# Altium schematic symbol library GN-1846-A-V2.SCHLIB: 33 symbols
Pins are listed as number, name and electrical type; pins without a type are passive.

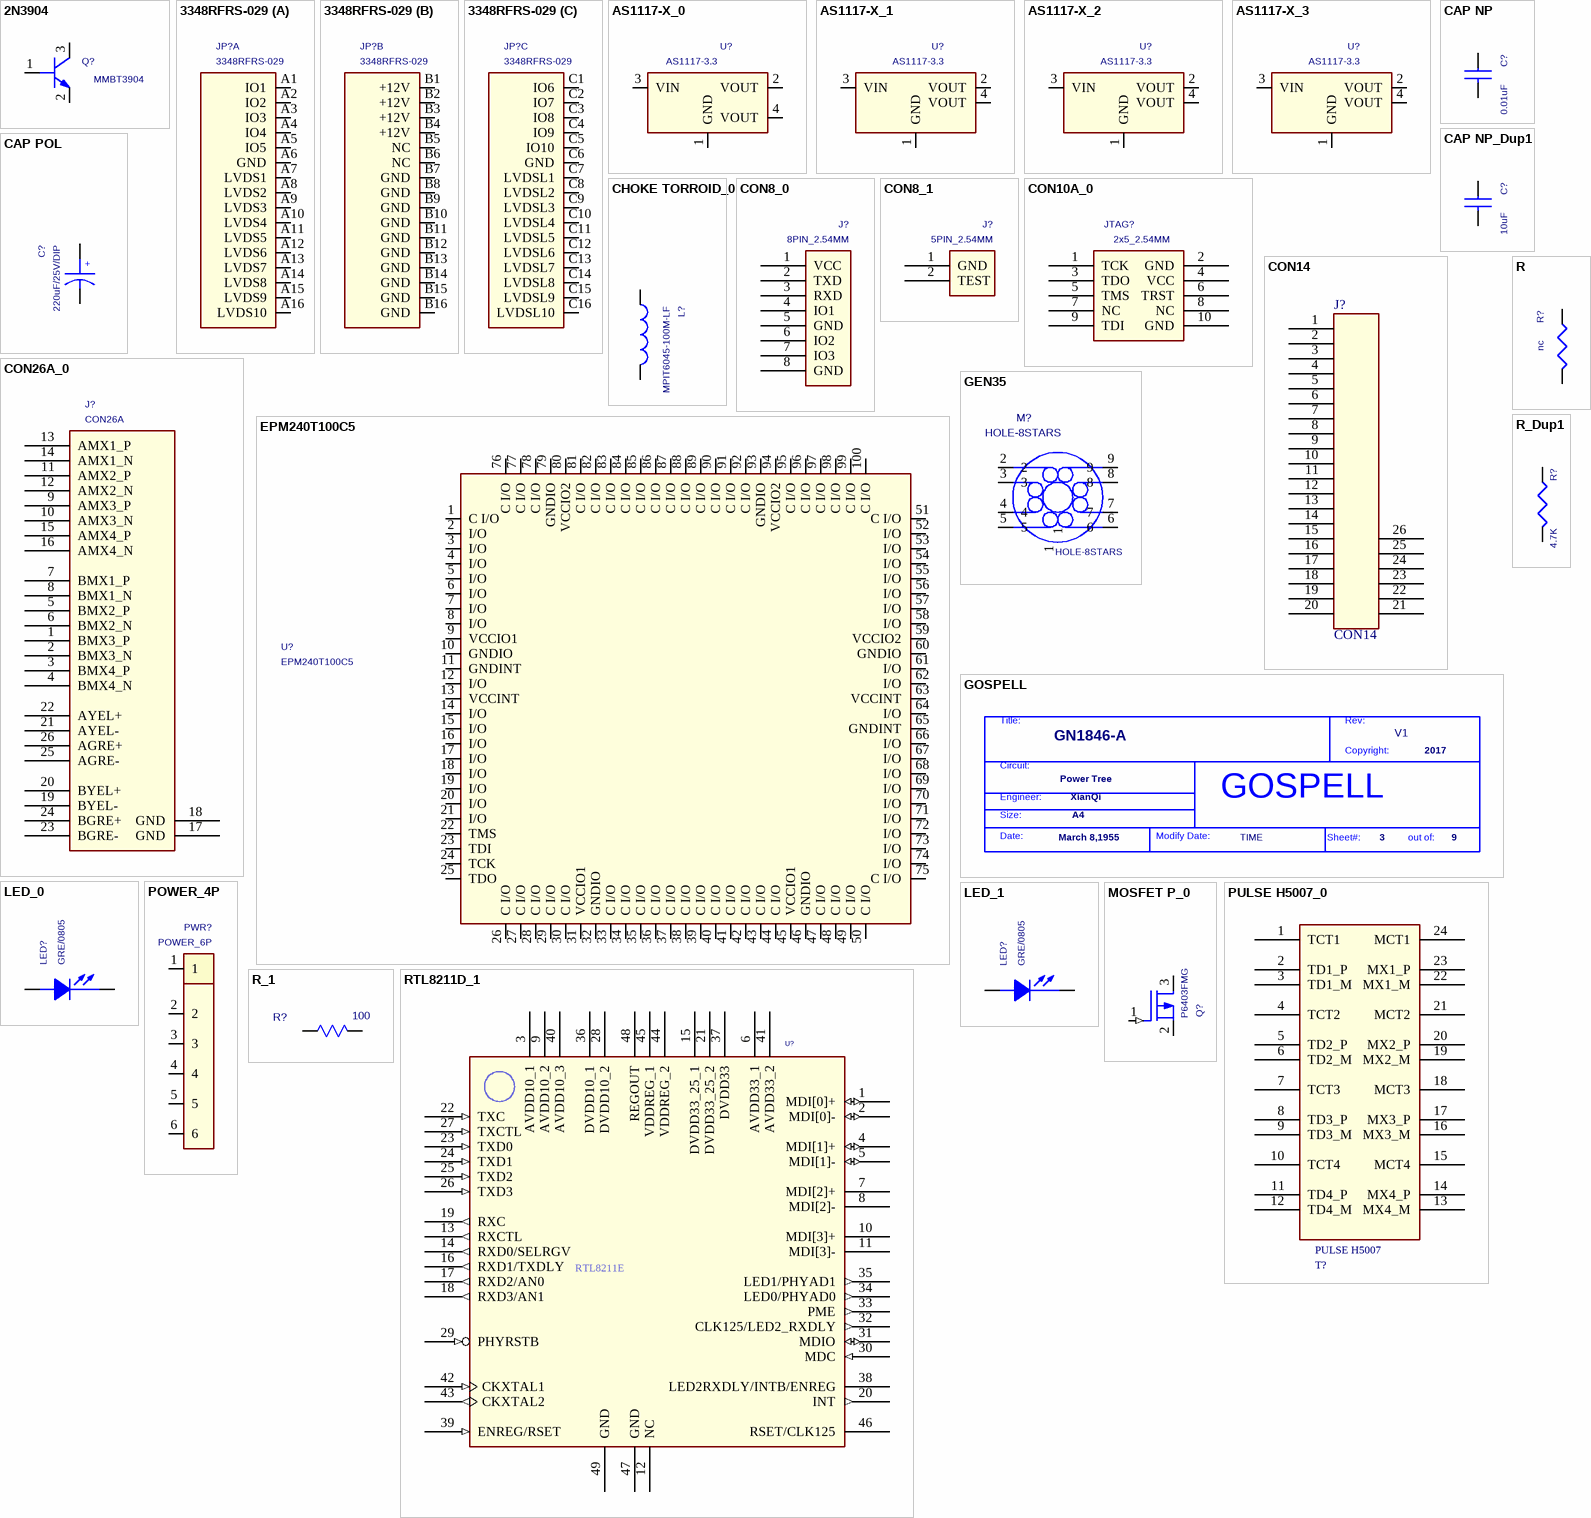
[diagram p0: symbols 2N3904 to RTL8211D_1]

## 2N3904
designator Q?, comment MMBT3904
footprint SOT23
footprint SOT23
pins: 1 BASE, 2 EMITTER, 3 COLLECTOR

## 3348RFRS-029
designator JP?
footprint 3348RFRS-029
footprint 3348RFRS-029
part A pins: A1 IO1, A2 IO2, A3 IO3, A4 IO4, A5 IO5, A6 GND, A7 LVDS1, A8 LVDS2, A9 LVDS3, A10 LVDS4, A11 LVDS5, A12 LVDS6, A13 LVDS7, A14 LVDS8, A15 LVDS9, A16 LVDS10
part B pins: B1 +12V, B2 +12V, B3 +12V, B4 +12V, B5 NC, B6 NC, B7 GND, B8 GND, B9 GND, B10 GND, B11 GND, B12 GND, B13 GND, B14 GND, B15 GND, B16 GND
part C pins: C1 IO6, C2 IO7, C3 IO8, C4 IO9, C5 IO10, C6 GND, C7 LVDSL1, C8 LVDSL2, C9 LVDSL3, C10 LVDSL4, C11 LVDSL5, C12 LVDSL6, C13 LVDSL7, C14 LVDSL8, C15 LVDSL9, C16 LVDSL10

## AS1117-X_0
designator U?, comment AS1117-3.3
footprint SOT223
footprint SOT223
pins: 1 GND, 2 VOUT, 3 VIN, 4 VOUT

## AS1117-X_1
designator U?, comment AS1117-3.3
footprint SOT223
footprint SOT223
pins: 1 GND, 2 VOUT, 3 VIN, 4 VOUT

## AS1117-X_2
designator U?, comment AS1117-3.3
footprint SOT223
footprint SOT223
pins: 1 GND, 2 VOUT, 3 VIN, 4 VOUT

## AS1117-X_3
designator U?, comment AS1117-3.3
footprint SOT223
footprint SOT223
pins: 1 GND, 2 VOUT, 3 VIN, 4 VOUT

## CAP NP
designator C?, comment 0.01uF
footprint 0402C
pins: 1, 2

## CAP NP_Dup1
designator C?, comment 10uF
footprint C0603
pins: 1, 2

## CAP POL
designator C?, comment 220uF/25V/DIP
footprint CE8X3.5
pins: 1, 2
text: +

## CHOKE TORROID_0
designator L?, comment MPIT6045-100M-LF
footprint MPI6045
pins: 1, 2

## CON8_0
designator J?, comment 8PIN_2.54MM
footprint CON8_2D54MM_G
pins: 1 VCC, 2 TXD, 3 RXD, 4 IO1, 5 GND, 6 IO2, 7 IO3, 8 GND

## CON8_1
designator J?, comment 5PIN_2.54MM
footprint CON5_2D54MM_G
pins: 1 GND, 2 TEST

## CON10A_0
designator JTAG?, comment 2x5_2.54MM
footprint HERDER5X2
pins: 1 TCK, 2 GND, 3 TDO, 4 VCC, 5 TMS, 6 TRST, 7 NC, 8 NC, 9 TDI, 10 GND

## CON14
designator J?
footprint HERDER13X2-2.0
pins: 1, 2, 3, 4, 5, 6, 7, 8, 9, 10, 11, 12, 13, 14, 15 14, 16 14, 17 14, 18 14, 19 14, 20 14, 21 14, 22 14, 23 14, 24 14, 25 14, 26 14

## CON26A_0
designator J?, comment CON26A
footprint HERDER2X13
pins: 1 BMX3_P, 2 BMX3_N, 3 BMX4_P, 4 BMX4_N, 5 BMX2_P, 6 BMX2_N, 7 BMX1_P, 8 BMX1_N, 9 AMX3_P, 10 AMX3_N, 11 AMX2_P, 12 AMX2_N, 13 AMX1_P, 14 AMX1_N, 15 AMX4_P, 16 AMX4_N, 17 GND, 18 GND, 19 BYEL-, 20 BYEL+, 21 AYEL-, 22 AYEL+, 23 BGRE-, 24 BGRE+, 25 AGRE-, 26 AGRE+

## EPM240T100C5
designator U?
footprint TQFP-100P
pins: 1 C I/O, 2 I/O, 3 I/O, 4 I/O, 5 I/O, 6 I/O, 7 I/O, 8 I/O, 9 VCCIO1, 10 GNDIO, 11 GNDINT, 12 I/O, 13 VCCINT, 14 I/O, 15 I/O, 16 I/O, 17 I/O, 18 I/O, 19 I/O, 20 I/O, 21 I/O, 22 TMS, 23 TDI, 24 TCK, 25 TDO, 26 C I/O, 27 C I/O, 28 C I/O, 29 C I/O, 30 C I/O, 31 VCCIO1, 32 GNDIO, 33 C I/O, 34 C I/O, 35 C I/O, 36 C I/O, 37 C I/O, 38 C I/O, 39 C I/O, 40 C I/O, 41 C I/O, 42 C I/O, 43 C I/O, 44 C I/O, 45 VCCIO1, 46 GNDIO, 47 C I/O, 48 C I/O, 49 C I/O, 50 C I/O, 51 C I/O, 52 I/O, 53 I/O, 54 I/O, 55 I/O, 56 I/O, 57 I/O, 58 I/O, 59 VCCIO2, 60 GNDIO, 61 I/O, 62 I/O, 63 VCCINT, 64 I/O, 65 GNDINT, 66 I/O, 67 I/O, 68 I/O, 69 I/O, 70 I/O, 71 I/O, 72 I/O, 73 I/O, 74 I/O, 75 C I/O, 76 C I/O, 77 C I/O, 78 C I/O, 79 GNDIO, 80 VCCIO2, 81 C I/O, 82 C I/O, 83 C I/O, 84 C I/O, 85 C I/O, 86 C I/O, 87 C I/O, 88 C I/O, 89 C I/O, 90 C I/O, 91 C I/O, 92 C I/O, 93 GNDIO, 94 VCCIO2, 95 C I/O, 96 C I/O, 97 C I/O, 98 C I/O, 99 C I/O, 100 C I/O

## GEN35
designator M?, comment HOLE-8STARS
Layer: Top; SMD: No; DEVICE: HOLE-8STARS
footprint HK (Footprint not found)
footprint HK
pins: 1, 2, 3, 4, 5, 6, 7, 8, 9

## GOSPELL
designator *?  Doc: Power Tree  Page Count: 9  Page Number: 3  Page Create Date: March 8,1955  Page Size: A4  RevCode: V1  Title: GN1846-A  Copyright: 2017  Engineer: XianQi  Page Modify Date: TIME  (hidden comment: GOSPELL)  (graphical)
Cage Code: 2017; Schematic Page Count: 9; Schematic Page Number: 3
text: Title:; Rev:; Copyright:; Circuit:; Engineer:; Size:; Date:; Modify Date:; Sheet#:; out of:

## LED_0
designator LED?, comment GRE/0805
footprint LED0805
pins: A ANODE, K CATHODE

## LED_1
designator LED?, comment GRE/0805
footprint LED0805
pins: A ANODE, K CATHODE

## MOSFET P_0
designator Q?, comment P6403FMG
footprint SOT23
pins: 1 GATE (in), 2 SOURCE, 3 DRAIN

## POWER_4P
designator PWR?, comment POWER_6P
footprint TJC2-6 (Footprint not found)
footprint POWER_4P
pins: 1, 2, 3, 4, 5, 6

## PULSE H5007_0
designator T?, comment PULSE H5007
footprint H5007-H
footprint H5007-H
pins: 1 TCT1, 2 TD1_P, 3 TD1_M, 4 TCT2, 5 TD2_P, 6 TD2_M, 7 TCT3, 8 TD3_P, 9 TD3_M, 10 TCT4, 11 TD4_P, 12 TD4_M, 13 MX4_M, 14 MX4_P, 15 MCT4, 16 MX3_M, 17 MX3_P, 18 MCT3, 19 MX2_M, 20 MX2_P, 21 MCT2, 22 MX1_M, 23 MX1_P, 24 MCT1
1 alternate drawing of the same symbol

## R
designator R?, comment nc
footprint 0805
pins: 1, 2

## R_1
designator R?, comment 100
PARTS: 1; OriginalSymbolOrigin: (10,20); PINSWAP: (A,B); DEVICE: RK73H1JTTD7502F; PKG_TYPE: SR0603; LEVEL: STD; %208%%161%%192%%224%%195%%251%%179%%198%: 片式厚膜电阻器; COMPONENT_HIGH_MAX: 0.55MM; %215%%232%%214%%181%%212%%202%%208%%237%%198%%171%%178%%238%: +/-1%; %182%%238%%182%%168%%185%%166%%194%%202%(W): 0.1; %195%%232%%202%%246%: 片式厚膜电阻器-0.1W-75000OHM-+/-1%-0603; CODE: 7091238
footprint 0402R
pins: 1 A, 2 B

## R_Dup1
designator R?, comment 4.7K
footprint 0402R
pins: 1, 2

## RTL8211D_1
designator U?, comment RTL8211D  (value not drawn)
footprint QFN-48P-RTL8211
footprint QFN-48P-RTL8211
pins: 1 MDI[0]+ (io), 2 MDI[0]- (io), 3 AVDD10_1 (power), 4 MDI[1]+ (io), 5 MDI[1]- (io), 6 AVDD33_1 (power), 7 MDI[2]+, 8 MDI[2]-, 9 AVDD10_2 (power), 10 MDI[3]+, 11 MDI[3]-, 12 NC, 13 RXCTL (out), 14 RXD0/SELRGV (out), 15 DVDD33_25_1 (power), 16 RXD1/TXDLY (out), 17 RXD2/AN0 (out), 18 RXD3/AN1 (out), 19 RXC (out), 20 INT (out), 21 DVDD33_25_2 (power), 22 TXC (in), 23 TXD0 (in), 24 TXD1 (in), 25 TXD2 (in), 26 TXD3 (in), 27 TXCTL (in), 28 DVDD10_2 (power), 29 PHYRSTB (in), 30 MDC (in), 31 MDIO (io), 32 CLK125/LED2_RXDLY (out), 33 PME (out), 34 LED0/PHYAD0 (out), 35 LED1/PHYAD1 (out), 36 DVDD10_1 (power), 37 DVDD33 (power), 38 LED2RXDLY/INTB/ENREG, 39 ENREG/RSET (in), 40 AVDD10_3 (power), 41 AVDD33_2 (power), 42 CKXTAL1 (in), 43 CKXTAL2 (out), 44 VDDREG_2 (power), 45 VDDREG_1 (power), 46 RSET/CLK125, 47 GND (power), 48 REGOUT (power), 49 GND (power)
1 alternate drawing of the same symbol
text: RTL8211E

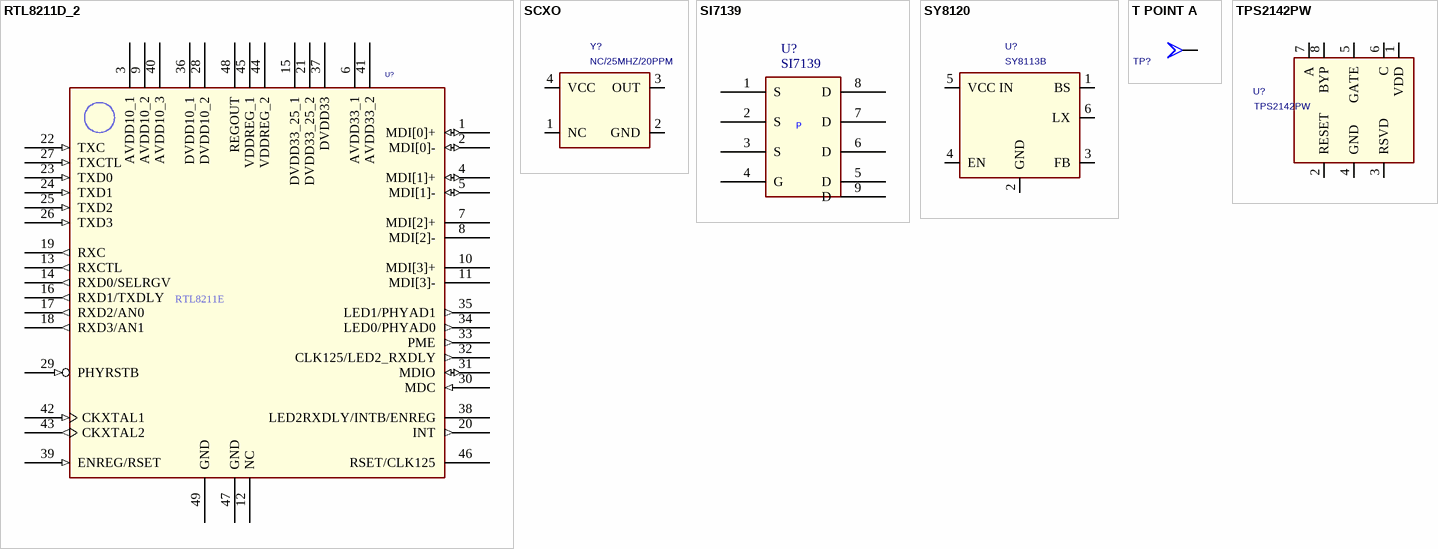
[diagram p1: symbols RTL8211D_2 to TPS2142PW]

## RTL8211D_2
designator U?, comment RTL8211D  (value not drawn)
footprint QFN-48P-RTL8211
footprint QFN-48P-RTL8211
pins: 1 MDI[0]+ (io), 2 MDI[0]- (io), 3 AVDD10_1 (power), 4 MDI[1]+ (io), 5 MDI[1]- (io), 6 AVDD33_1 (power), 7 MDI[2]+, 8 MDI[2]-, 9 AVDD10_2 (power), 10 MDI[3]+, 11 MDI[3]-, 12 NC, 13 RXCTL (out), 14 RXD0/SELRGV (out), 15 DVDD33_25_1 (power), 16 RXD1/TXDLY (out), 17 RXD2/AN0 (out), 18 RXD3/AN1 (out), 19 RXC (out), 20 INT (out), 21 DVDD33_25_2 (power), 22 TXC (in), 23 TXD0 (in), 24 TXD1 (in), 25 TXD2 (in), 26 TXD3 (in), 27 TXCTL (in), 28 DVDD10_2 (power), 29 PHYRSTB (in), 30 MDC (in), 31 MDIO (io), 32 CLK125/LED2_RXDLY (out), 33 PME (out), 34 LED0/PHYAD0 (out), 35 LED1/PHYAD1 (out), 36 DVDD10_1 (power), 37 DVDD33 (power), 38 LED2RXDLY/INTB/ENREG, 39 ENREG/RSET (in), 40 AVDD10_3 (power), 41 AVDD33_2 (power), 42 CKXTAL1 (in), 43 CKXTAL2 (out), 44 VDDREG_2 (power), 45 VDDREG_1 (power), 46 RSET/CLK125, 47 GND (power), 48 REGOUT (power), 49 GND (power)
1 alternate drawing of the same symbol
text: RTL8211E

## SCXO
designator Y?, comment NC/25MHZ/20PPM
footprint SCXO_7.0X5.0
footprint SCXO_7.0X5.0
pins: 1 NC, 2 GND, 3 OUT, 4 VCC

## SI7139
designator U?
footprint PowerPAKSO8
pins: 1 S, 2 S, 3 S, 4 G, 5 D, 6 D, 7 D, 8 D, 9 D
text: P

## SY8120
designator U?, comment SY8113B
footprint SOT23_6_G
footprint SOT23_6_G
pins: 1 BS, 2 GND, 3 FB, 4 EN, 5 VCC IN, 6 LX

## T POINT A
designator TP?  (value not drawn)
footprint TP_G
pins: 1 TP

## TPS2142PW
designator U?
footprint TSSOP-8
footprint TSSOP-8
pins: 1 VDD, 2 RESET, 3 RSVD, 4 GND, 5 GATE, 6 C, 7 A, 8 BYP